# Altium schematic symbol library LT6100HMS8PBF Current Sense Amp.Schlib: 1 symbol
Pins are listed as number, name and electrical type; pins without a type are passive.

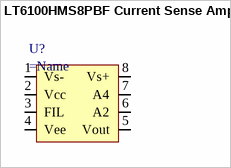
[diagram p0: symbol LT6100HMS8PBF Current Sense Amp]

## LT6100HMS8PBF Current Sense Amp
designator U?
High Side Current Sense Amp
pins: 1 Vs-, 2 Vcc, 3 FIL, 4 Vee, 5 Vout, 6 A2, 7 A4, 8 Vs+